# Altium footprint library IQS127D-00000-TSR.PcbLib: 3 footprints
Each footprint in its own frame and in the unit in brackets; x right, y up, seen from the top. Pads: shape width x height; smd on the part's side, far side on the other; paste and mask are expansions set on the pad; w line width, h text height; cw(c..) or ccw(c..) is an arc to the next point about the centre after c.
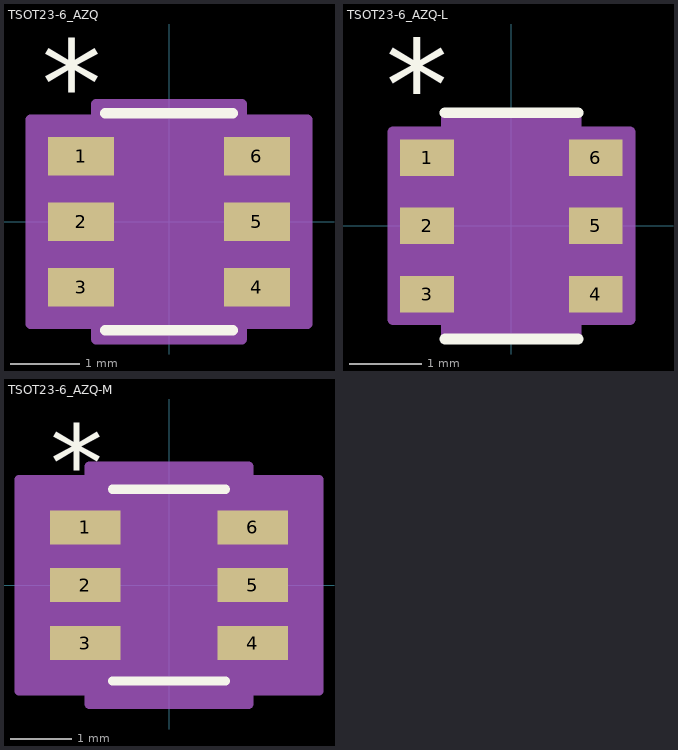
[diagram p0: the footprints below, top view; thin cyan lines are the x and y axes]

## TSOT23-6_AZQ [mil]
pads (6):
  rect 37.5x22 smd paste+0 mask+0: 1(-50.25,37.4) 2(-50.25,0) 3(-50.25,-37.4) 4(50.25,-37.4) 5(50.25,0) 6(50.25,37.4)
Top Overlay:
  lines w6: -36.5,-62 36.5,-62 ; -36.5,62 36.5,62
  text "*" at -72.75,54.4 h50
Mechanical 13:
  lines w0: -12,57 ccw(c0,57) 12,57
  lines w1: -55,-47.4 -31.5,-47.4 -31.5,-27.4 -55,-27.4 -55,-47.4 ; -55,-10 -31.5,-10 -31.5,10 -55,10 -55,-10 ; -55,27.4 -31.5,27.4 -31.5,47.4 -55,47.4 -55,27.4 ; -31.5,-57 -31.5,57 31.5,57 31.5,-57 -31.5,-57 ; 31.5,-47.4 55,-47.4 55,-27.4 31.5,-27.4 31.5,-47.4 ; 31.5,-10 55,-10 55,10 31.5,10 31.5,-10 ; 31.5,27.4 55,27.4 55,47.4 31.5,47.4 31.5,27.4
Mechanical 15:
  region: -41.5,-58.4 -79,-58.4 -79,58.4 -41.5,58.4 -41.5,67 41.5,67 41.5,58.4 79,58.4 79,-58.4 41.5,-58.4 41.5,-67 -41.5,-67
  lines w6: -79,-58.4 -41.5,-58.4 -41.5,-67 41.5,-67 41.5,-58.4 79,-58.4 79,58.4 41.5,58.4 41.5,67 -41.5,67 -41.5,58.4 -79,58.4 -79,-58.4
3D body: height 39.09, standoff 0, extent -55,-57.01 55,57.01

## TSOT23-6_AZQ-L [mil]
pads (6):
  rect 29.5x20 smd paste+0 mask+0: 1(-46.25,37.4) 2(-46.25,0) 3(-46.25,-37.4) 4(46.25,-37.4) 5(46.25,0) 6(46.25,37.4)
Top Overlay:
  lines w6: -36.5,-62 36.5,-62 ; -36.5,62 36.5,62
  text "*" at -68.75,52.4 h50
Mechanical 13:
  lines w0: -12,57 ccw(c0,57) 12,57
  lines w1: -55,-47.4 -31.5,-47.4 -31.5,-27.4 -55,-27.4 -55,-47.4 ; -55,-10 -31.5,-10 -31.5,10 -55,10 -55,-10 ; -55,27.4 -31.5,27.4 -31.5,47.4 -55,47.4 -55,27.4 ; -31.5,-57 -31.5,57 31.5,57 31.5,-57 -31.5,-57 ; 31.5,-47.4 55,-47.4 55,-27.4 31.5,-27.4 31.5,-47.4 ; 31.5,-10 55,-10 55,10 31.5,10 31.5,-10 ; 31.5,27.4 55,27.4 55,47.4 31.5,47.4 31.5,27.4
  text "*" at -29,4 h50
Mechanical 15:
  region: -35.5,-51.4 -65,-51.4 -65,51.4 -35.5,51.4 -35.5,61 35.5,61 35.5,51.4 65,51.4 65,-51.4 35.5,-51.4 35.5,-61 -35.5,-61
  lines w6: -65,-51.4 -35.5,-51.4 -35.5,-61 35.5,-61 35.5,-51.4 65,-51.4 65,51.4 35.5,51.4 35.5,61 -35.5,61 -35.5,51.4 -65,51.4 -65,-51.4
3D body: height 39.09, standoff 0, extent -55,-57.01 55,57.01

## TSOT23-6_AZQ-M [mil]
pads (6):
  rect 45.5x22 smd paste+0 mask+0: 1(-54.25,37.4) 2(-54.25,0) 3(-54.25,-37.4) 4(54.25,-37.4) 5(54.25,0) 6(54.25,37.4)
Top Overlay:
  lines w6: -36.5,-62 36.5,-62 ; -36.5,62 36.5,62
  text "*" at -76.75,54.4 h50
Mechanical 13:
  lines w0: -12,57 ccw(c0,57) 12,57
  lines w1: -55,-47.4 -31.5,-47.4 -31.5,-27.4 -55,-27.4 -55,-47.4 ; -55,-10 -31.5,-10 -31.5,10 -55,10 -55,-10 ; -55,27.4 -31.5,27.4 -31.5,47.4 -55,47.4 -55,27.4 ; -31.5,-57 -31.5,57 31.5,57 31.5,-57 -31.5,-57 ; 31.5,-47.4 55,-47.4 55,-27.4 31.5,-27.4 31.5,-47.4 ; 31.5,-10 55,-10 55,10 31.5,10 31.5,-10 ; 31.5,27.4 55,27.4 55,47.4 31.5,47.4 31.5,27.4
  text "*" at -29,4 h50
Mechanical 15:
  region: -51.5,-68.4 -97,-68.4 -97,68.4 -51.5,68.4 -51.5,77 51.5,77 51.5,68.4 97,68.4 97,-68.4 51.5,-68.4 51.5,-77 -51.5,-77
  lines w6: -97,-68.4 -51.5,-68.4 -51.5,-77 51.5,-77 51.5,-68.4 97,-68.4 97,68.4 51.5,68.4 51.5,77 -51.5,77 -51.5,68.4 -97,68.4 -97,-68.4
3D body: height 39.09, standoff 0, extent -55,-57.01 55,57.01